# Altium integrated library Actel ProASIC3.IntLib: 465 symbols (part 12 of 68)
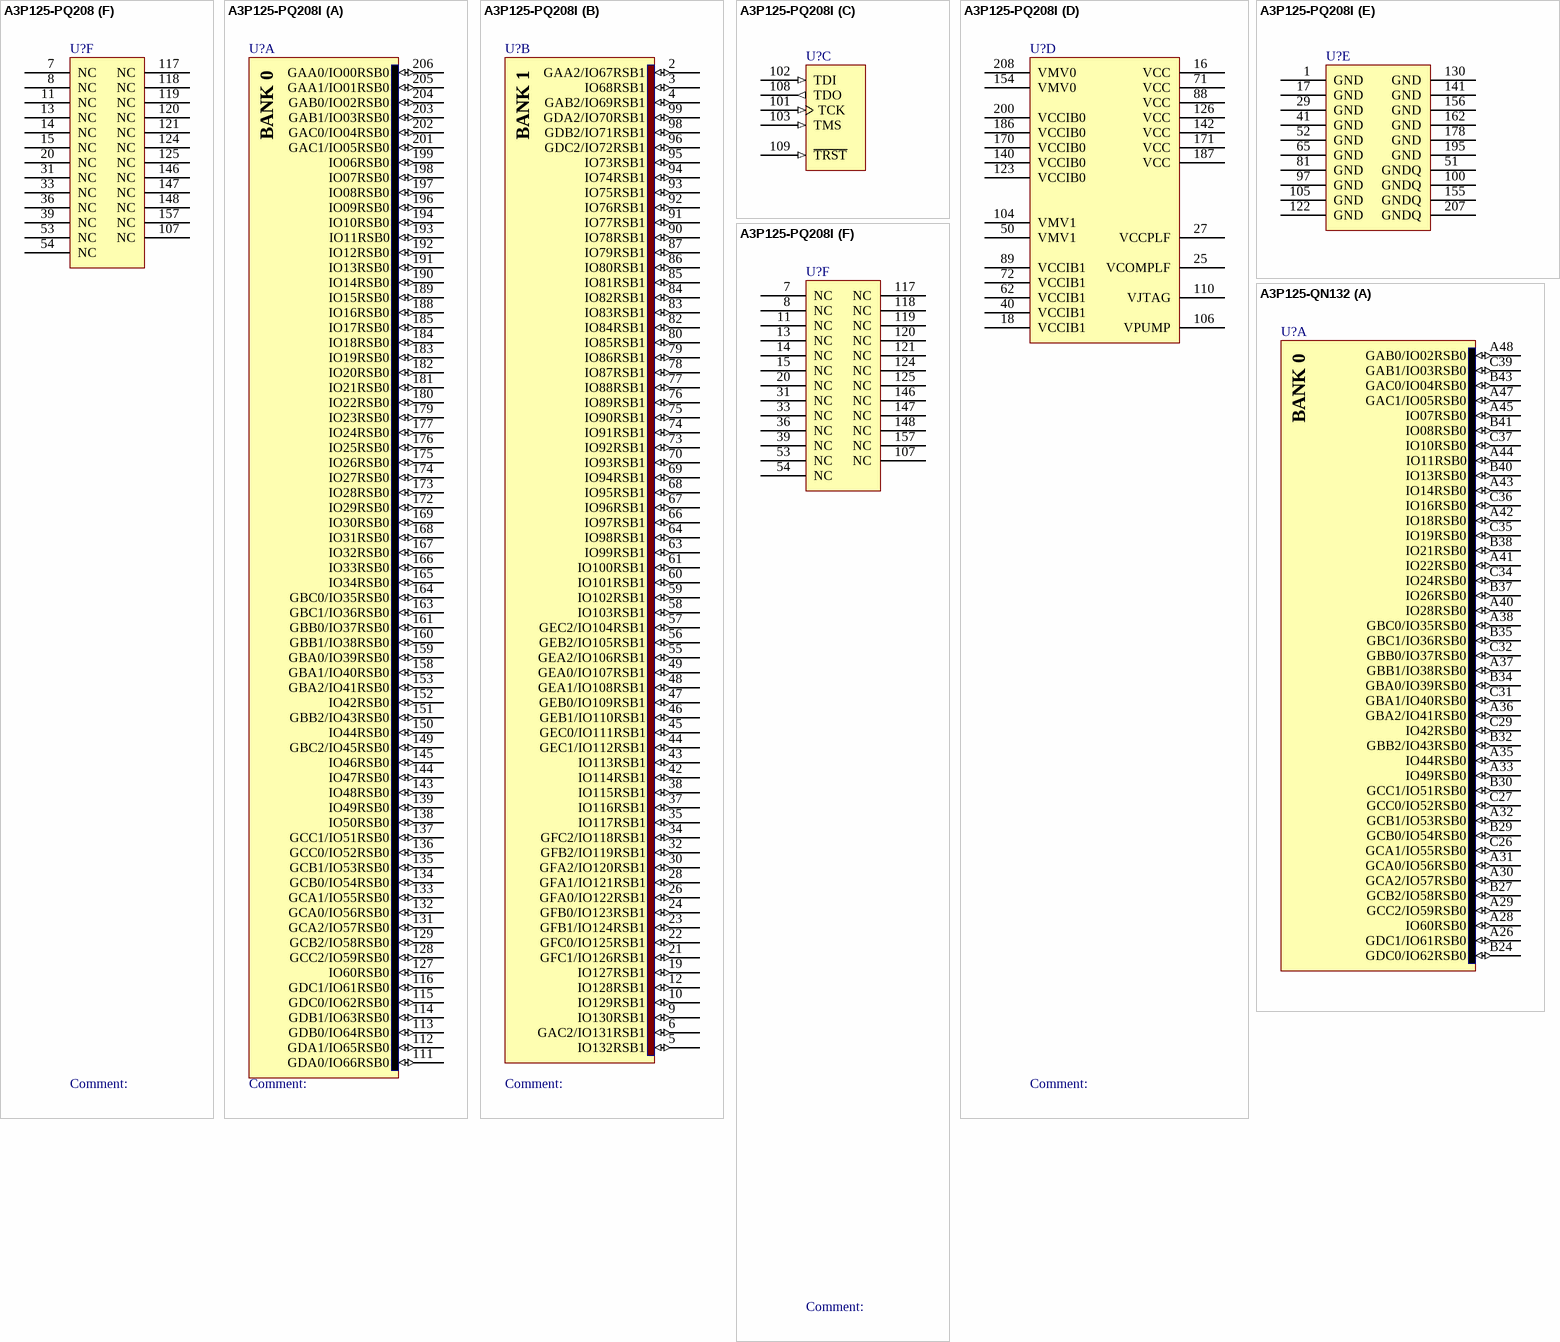
[diagram p429: symbols A3P125-PQ208 to A3P125-QN132]

## A3P125-PQ208
designator U?
ProASIC3 Flash Family FPGA, 133 User IOs, 125K System Gates, 36 Kbits RAM, 1 Kbit Flash ROM, 1 PLL, 208-Pin PQFP, Commercial Grade; Published: 4-Mar-2005; LatestRevisionDate: 11-Dec-2009; LatestRevisionNote: Updated to datasheet version 1.3 Oct-2009.; DatasheetVersion: v1.3, Oct-2009; PackageVersion: ver11.2, Nov-2009; PackageReference: PQ208; Publisher: Altium Limited; PackageDescription: 208-Pin Plastic Quad Flat Pack (PQ208); Code_JEDEC: MS-029-FA-1; ComponentLink1Description: ProASIC3 Datasheet; ComponentLink1URL: http://www.actel.com/documents/PA3_DS.pdf; ComponentLink2Description: Package Mechanical Drawings; ComponentLink2URL: http://www.actel.com/documents/PckgMechDrwngs.pdf; ComponentLink3Description: ProASIC3 Documents; ComponentLink3URL: http://www.actel.com/products/pa3/docs.aspx; ComponentLink4Description: Actel.com Home; ComponentLink4URL: http://www.actel.com/
footprint PQ208_N (Shrink QFP, 208-Leads, Body 28x28mm, Pitch 0.5mm, IPC Medium Density)
footprint PQ208_L (Shrink QFP, 208-Leads, Body 28x28mm, Pitch 0.5mm, IPC High Density)
footprint PQ208_M (Shrink QFP, 208-Leads, Body 28x28mm, Pitch 0.5mm, IPC Low Density)
signal-integrity model A3P125_PQ208 (ProASIC3)
part A pins: 111 GDA0/IO66RSB0 (io), 112 GDA1/IO65RSB0 (io), 113 GDB0/IO64RSB0 (io), 114 GDB1/IO63RSB0 (io), 115 GDC0/IO62RSB0 (io), 116 GDC1/IO61RSB0 (io), 127 IO60RSB0 (io), 128 GCC2/IO59RSB0 (io), 129 GCB2/IO58RSB0 (io), 131 GCA2/IO57RSB0 (io), 132 GCA0/IO56RSB0 (io), 133 GCA1/IO55RSB0 (io), 134 GCB0/IO54RSB0 (io), 135 GCB1/IO53RSB0 (io), 136 GCC0/IO52RSB0 (io), 137 GCC1/IO51RSB0 (io), 138 IO50RSB0 (io), 139 IO49RSB0 (io), 143 IO48RSB0 (io), 144 IO47RSB0 (io), 145 IO46RSB0 (io), 149 GBC2/IO45RSB0 (io), 150 IO44RSB0 (io), 151 GBB2/IO43RSB0 (io), 152 IO42RSB0 (io), 153 GBA2/IO41RSB0 (io), 158 GBA1/IO40RSB0 (io), 159 GBA0/IO39RSB0 (io), 160 GBB1/IO38RSB0 (io), 161 GBB0/IO37RSB0 (io), 163 GBC1/IO36RSB0 (io), 164 GBC0/IO35RSB0 (io), 165 IO34RSB0 (io), 166 IO33RSB0 (io), 167 IO32RSB0 (io), 168 IO31RSB0 (io), 169 IO30RSB0 (io), 172 IO29RSB0 (io), 173 IO28RSB0 (io), 174 IO27RSB0 (io), 175 IO26RSB0 (io), 176 IO25RSB0 (io), 177 IO24RSB0 (io), 179 IO23RSB0 (io), 180 IO22RSB0 (io), 181 IO21RSB0 (io), 182 IO20RSB0 (io), 183 IO19RSB0 (io), 184 IO18RSB0 (io), 185 IO17RSB0 (io), 188 IO16RSB0 (io), 189 IO15RSB0 (io), 190 IO14RSB0 (io), 191 IO13RSB0 (io), 192 IO12RSB0 (io), 193 IO11RSB0 (io), 194 IO10RSB0 (io), 196 IO09RSB0 (io), 197 IO08RSB0 (io), 198 IO07RSB0 (io), 199 IO06RSB0 (io), 201 GAC1/IO05RSB0 (io), 202 GAC0/IO04RSB0 (io), 203 GAB1/IO03RSB0 (io), 204 GAB0/IO02RSB0 (io), 205 GAA1/IO01RSB0 (io), 206 GAA0/IO00RSB0 (io)
part B pins: 2 GAA2/IO67RSB1 (io), 3 IO68RSB1 (io), 4 GAB2/IO69RSB1 (io), 5 IO132RSB1 (io), 6 GAC2/IO131RSB1 (io), 9 IO130RSB1 (io), 10 IO129RSB1 (io), 12 IO128RSB1 (io), 19 IO127RSB1 (io), 21 GFC1/IO126RSB1 (io), 22 GFC0/IO125RSB1 (io), 23 GFB1/IO124RSB1 (io), 24 GFB0/IO123RSB1 (io), 26 GFA0/IO122RSB1 (io), 28 GFA1/IO121RSB1 (io), 30 GFA2/IO120RSB1 (io), 32 GFB2/IO119RSB1 (io), 34 GFC2/IO118RSB1 (io), 35 IO117RSB1 (io), 37 IO116RSB1 (io), 38 IO115RSB1 (io), 42 IO114RSB1 (io), 43 IO113RSB1 (io), 44 GEC1/IO112RSB1 (io), 45 GEC0/IO111RSB1 (io), 46 GEB1/IO110RSB1 (io), 47 GEB0/IO109RSB1 (io), 48 GEA1/IO108RSB1 (io), 49 GEA0/IO107RSB1 (io), 55 GEA2/IO106RSB1 (io), 56 GEB2/IO105RSB1 (io), 57 GEC2/IO104RSB1 (io), 58 IO103RSB1 (io), 59 IO102RSB1 (io), 60 IO101RSB1 (io), 61 IO100RSB1 (io), 63 IO99RSB1 (io), 64 IO98RSB1 (io), 66 IO97RSB1 (io), 67 IO96RSB1 (io), 68 IO95RSB1 (io), 69 IO94RSB1 (io), 70 IO93RSB1 (io), 73 IO92RSB1 (io), 74 IO91RSB1 (io), 75 IO90RSB1 (io), 76 IO89RSB1 (io), 77 IO88RSB1 (io), 78 IO87RSB1 (io), 79 IO86RSB1 (io), 80 IO85RSB1 (io), 82 IO84RSB1 (io), 83 IO83RSB1 (io), 84 IO82RSB1 (io), 85 IO81RSB1 (io), 86 IO80RSB1 (io), 87 IO79RSB1 (io), 90 IO78RSB1 (io), 91 IO77RSB1 (io), 92 IO76RSB1 (io), 93 IO75RSB1 (io), 94 IO74RSB1 (io), 95 IO73RSB1 (io), 96 GDC2/IO72RSB1 (io), 98 GDB2/IO71RSB1 (io), 99 GDA2/IO70RSB1 (io)
part C pins: 101 TCK (in), 102 TDI (in), 103 TMS (in), 108 TDO (out), 109 ~{TRST} (in)
part D pins: 16 VCC (power), 18 VCCIB1 (power), 25 VCOMPLF (power), 27 VCCPLF (power), 40 VCCIB1 (power), 50 VMV1 (power), 62 VCCIB1 (power), 71 VCC (power), 72 VCCIB1 (power), 88 VCC (power), 89 VCCIB1 (power), 104 VMV1 (power), 106 VPUMP (power), 110 VJTAG (power), 123 VCCIB0 (power), 126 VCC (power), 140 VCCIB0 (power), 142 VCC (power), 154 VMV0 (power), 170 VCCIB0 (power), 171 VCC (power), 186 VCCIB0 (power), 187 VCC (power), 200 VCCIB0 (power), 208 VMV0 (power)
part E pins: 1 GND (power), 17 GND (power), 29 GND (power), 41 GND (power), 51 GNDQ (power), 52 GND (power), 65 GND (power), 81 GND (power), 97 GND (power), 100 GNDQ (power), 105 GND (power), 122 GND (power), 130 GND (power), 141 GND (power), 155 GNDQ (power), 156 GND (power), 162 GND (power), 178 GND (power), 195 GND (power), 207 GNDQ (power)
part F pins: 7 NC, 8 NC, 11 NC, 13 NC, 14 NC, 15 NC, 20 NC, 31 NC, 33 NC, 36 NC, 39 NC, 53 NC, 54 NC, 107 NC, 117 NC, 118 NC, 119 NC, 120 NC, 121 NC, 124 NC, 125 NC, 146 NC, 147 NC, 148 NC, 157 NC
part A text: BANK 0
part B text: BANK 1

## A3P125-PQ208I
designator U?
ProASIC3 Flash Family FPGA, 133 User IOs, 125K System Gates, 36 Kbits RAM, 1 Kbit Flash ROM, 1 PLL, 208-Pin PQFP, Industrial Grade; Published: 4-Mar-2005; LatestRevisionDate: 11-Dec-2009; LatestRevisionNote: Updated to datasheet version 1.3 Oct-2009.; DatasheetVersion: v1.3, Oct-2009; PackageVersion: ver11.2, Nov-2009; PackageReference: PQ208; Publisher: Altium Limited; PackageDescription: 208-Pin Plastic Quad Flat Pack (PQ208); Code_JEDEC: MS-029-FA-1; ComponentLink1Description: ProASIC3 Datasheet; ComponentLink1URL: http://www.actel.com/documents/PA3_DS.pdf; ComponentLink2Description: Package Mechanical Drawings; ComponentLink2URL: http://www.actel.com/documents/PckgMechDrwngs.pdf; ComponentLink3Description: ProASIC3 Documents; ComponentLink3URL: http://www.actel.com/products/pa3/docs.aspx; ComponentLink4Description: Actel.com Home; ComponentLink4URL: http://www.actel.com/
footprint PQ208_N (Shrink QFP, 208-Leads, Body 28x28mm, Pitch 0.5mm, IPC Medium Density)
footprint PQ208_L (Shrink QFP, 208-Leads, Body 28x28mm, Pitch 0.5mm, IPC High Density)
footprint PQ208_M (Shrink QFP, 208-Leads, Body 28x28mm, Pitch 0.5mm, IPC Low Density)
signal-integrity model A3P125_PQ208 (ProASIC3)
part A pins: 111 GDA0/IO66RSB0 (io), 112 GDA1/IO65RSB0 (io), 113 GDB0/IO64RSB0 (io), 114 GDB1/IO63RSB0 (io), 115 GDC0/IO62RSB0 (io), 116 GDC1/IO61RSB0 (io), 127 IO60RSB0 (io), 128 GCC2/IO59RSB0 (io), 129 GCB2/IO58RSB0 (io), 131 GCA2/IO57RSB0 (io), 132 GCA0/IO56RSB0 (io), 133 GCA1/IO55RSB0 (io), 134 GCB0/IO54RSB0 (io), 135 GCB1/IO53RSB0 (io), 136 GCC0/IO52RSB0 (io), 137 GCC1/IO51RSB0 (io), 138 IO50RSB0 (io), 139 IO49RSB0 (io), 143 IO48RSB0 (io), 144 IO47RSB0 (io), 145 IO46RSB0 (io), 149 GBC2/IO45RSB0 (io), 150 IO44RSB0 (io), 151 GBB2/IO43RSB0 (io), 152 IO42RSB0 (io), 153 GBA2/IO41RSB0 (io), 158 GBA1/IO40RSB0 (io), 159 GBA0/IO39RSB0 (io), 160 GBB1/IO38RSB0 (io), 161 GBB0/IO37RSB0 (io), 163 GBC1/IO36RSB0 (io), 164 GBC0/IO35RSB0 (io), 165 IO34RSB0 (io), 166 IO33RSB0 (io), 167 IO32RSB0 (io), 168 IO31RSB0 (io), 169 IO30RSB0 (io), 172 IO29RSB0 (io), 173 IO28RSB0 (io), 174 IO27RSB0 (io), 175 IO26RSB0 (io), 176 IO25RSB0 (io), 177 IO24RSB0 (io), 179 IO23RSB0 (io), 180 IO22RSB0 (io), 181 IO21RSB0 (io), 182 IO20RSB0 (io), 183 IO19RSB0 (io), 184 IO18RSB0 (io), 185 IO17RSB0 (io), 188 IO16RSB0 (io), 189 IO15RSB0 (io), 190 IO14RSB0 (io), 191 IO13RSB0 (io), 192 IO12RSB0 (io), 193 IO11RSB0 (io), 194 IO10RSB0 (io), 196 IO09RSB0 (io), 197 IO08RSB0 (io), 198 IO07RSB0 (io), 199 IO06RSB0 (io), 201 GAC1/IO05RSB0 (io), 202 GAC0/IO04RSB0 (io), 203 GAB1/IO03RSB0 (io), 204 GAB0/IO02RSB0 (io), 205 GAA1/IO01RSB0 (io), 206 GAA0/IO00RSB0 (io)
part B pins: 2 GAA2/IO67RSB1 (io), 3 IO68RSB1 (io), 4 GAB2/IO69RSB1 (io), 5 IO132RSB1 (io), 6 GAC2/IO131RSB1 (io), 9 IO130RSB1 (io), 10 IO129RSB1 (io), 12 IO128RSB1 (io), 19 IO127RSB1 (io), 21 GFC1/IO126RSB1 (io), 22 GFC0/IO125RSB1 (io), 23 GFB1/IO124RSB1 (io), 24 GFB0/IO123RSB1 (io), 26 GFA0/IO122RSB1 (io), 28 GFA1/IO121RSB1 (io), 30 GFA2/IO120RSB1 (io), 32 GFB2/IO119RSB1 (io), 34 GFC2/IO118RSB1 (io), 35 IO117RSB1 (io), 37 IO116RSB1 (io), 38 IO115RSB1 (io), 42 IO114RSB1 (io), 43 IO113RSB1 (io), 44 GEC1/IO112RSB1 (io), 45 GEC0/IO111RSB1 (io), 46 GEB1/IO110RSB1 (io), 47 GEB0/IO109RSB1 (io), 48 GEA1/IO108RSB1 (io), 49 GEA0/IO107RSB1 (io), 55 GEA2/IO106RSB1 (io), 56 GEB2/IO105RSB1 (io), 57 GEC2/IO104RSB1 (io), 58 IO103RSB1 (io), 59 IO102RSB1 (io), 60 IO101RSB1 (io), 61 IO100RSB1 (io), 63 IO99RSB1 (io), 64 IO98RSB1 (io), 66 IO97RSB1 (io), 67 IO96RSB1 (io), 68 IO95RSB1 (io), 69 IO94RSB1 (io), 70 IO93RSB1 (io), 73 IO92RSB1 (io), 74 IO91RSB1 (io), 75 IO90RSB1 (io), 76 IO89RSB1 (io), 77 IO88RSB1 (io), 78 IO87RSB1 (io), 79 IO86RSB1 (io), 80 IO85RSB1 (io), 82 IO84RSB1 (io), 83 IO83RSB1 (io), 84 IO82RSB1 (io), 85 IO81RSB1 (io), 86 IO80RSB1 (io), 87 IO79RSB1 (io), 90 IO78RSB1 (io), 91 IO77RSB1 (io), 92 IO76RSB1 (io), 93 IO75RSB1 (io), 94 IO74RSB1 (io), 95 IO73RSB1 (io), 96 GDC2/IO72RSB1 (io), 98 GDB2/IO71RSB1 (io), 99 GDA2/IO70RSB1 (io)
part C pins: 101 TCK (in), 102 TDI (in), 103 TMS (in), 108 TDO (out), 109 ~{TRST} (in)
part D pins: 16 VCC (power), 18 VCCIB1 (power), 25 VCOMPLF (power), 27 VCCPLF (power), 40 VCCIB1 (power), 50 VMV1 (power), 62 VCCIB1 (power), 71 VCC (power), 72 VCCIB1 (power), 88 VCC (power), 89 VCCIB1 (power), 104 VMV1 (power), 106 VPUMP (power), 110 VJTAG (power), 123 VCCIB0 (power), 126 VCC (power), 140 VCCIB0 (power), 142 VCC (power), 154 VMV0 (power), 170 VCCIB0 (power), 171 VCC (power), 186 VCCIB0 (power), 187 VCC (power), 200 VCCIB0 (power), 208 VMV0 (power)
part E pins: 1 GND (power), 17 GND (power), 29 GND (power), 41 GND (power), 51 GNDQ (power), 52 GND (power), 65 GND (power), 81 GND (power), 97 GND (power), 100 GNDQ (power), 105 GND (power), 122 GND (power), 130 GND (power), 141 GND (power), 155 GNDQ (power), 156 GND (power), 162 GND (power), 178 GND (power), 195 GND (power), 207 GNDQ (power)
part F pins: 7 NC, 8 NC, 11 NC, 13 NC, 14 NC, 15 NC, 20 NC, 31 NC, 33 NC, 36 NC, 39 NC, 53 NC, 54 NC, 107 NC, 117 NC, 118 NC, 119 NC, 120 NC, 121 NC, 124 NC, 125 NC, 146 NC, 147 NC, 148 NC, 157 NC
part A text: BANK 0
part B text: BANK 1

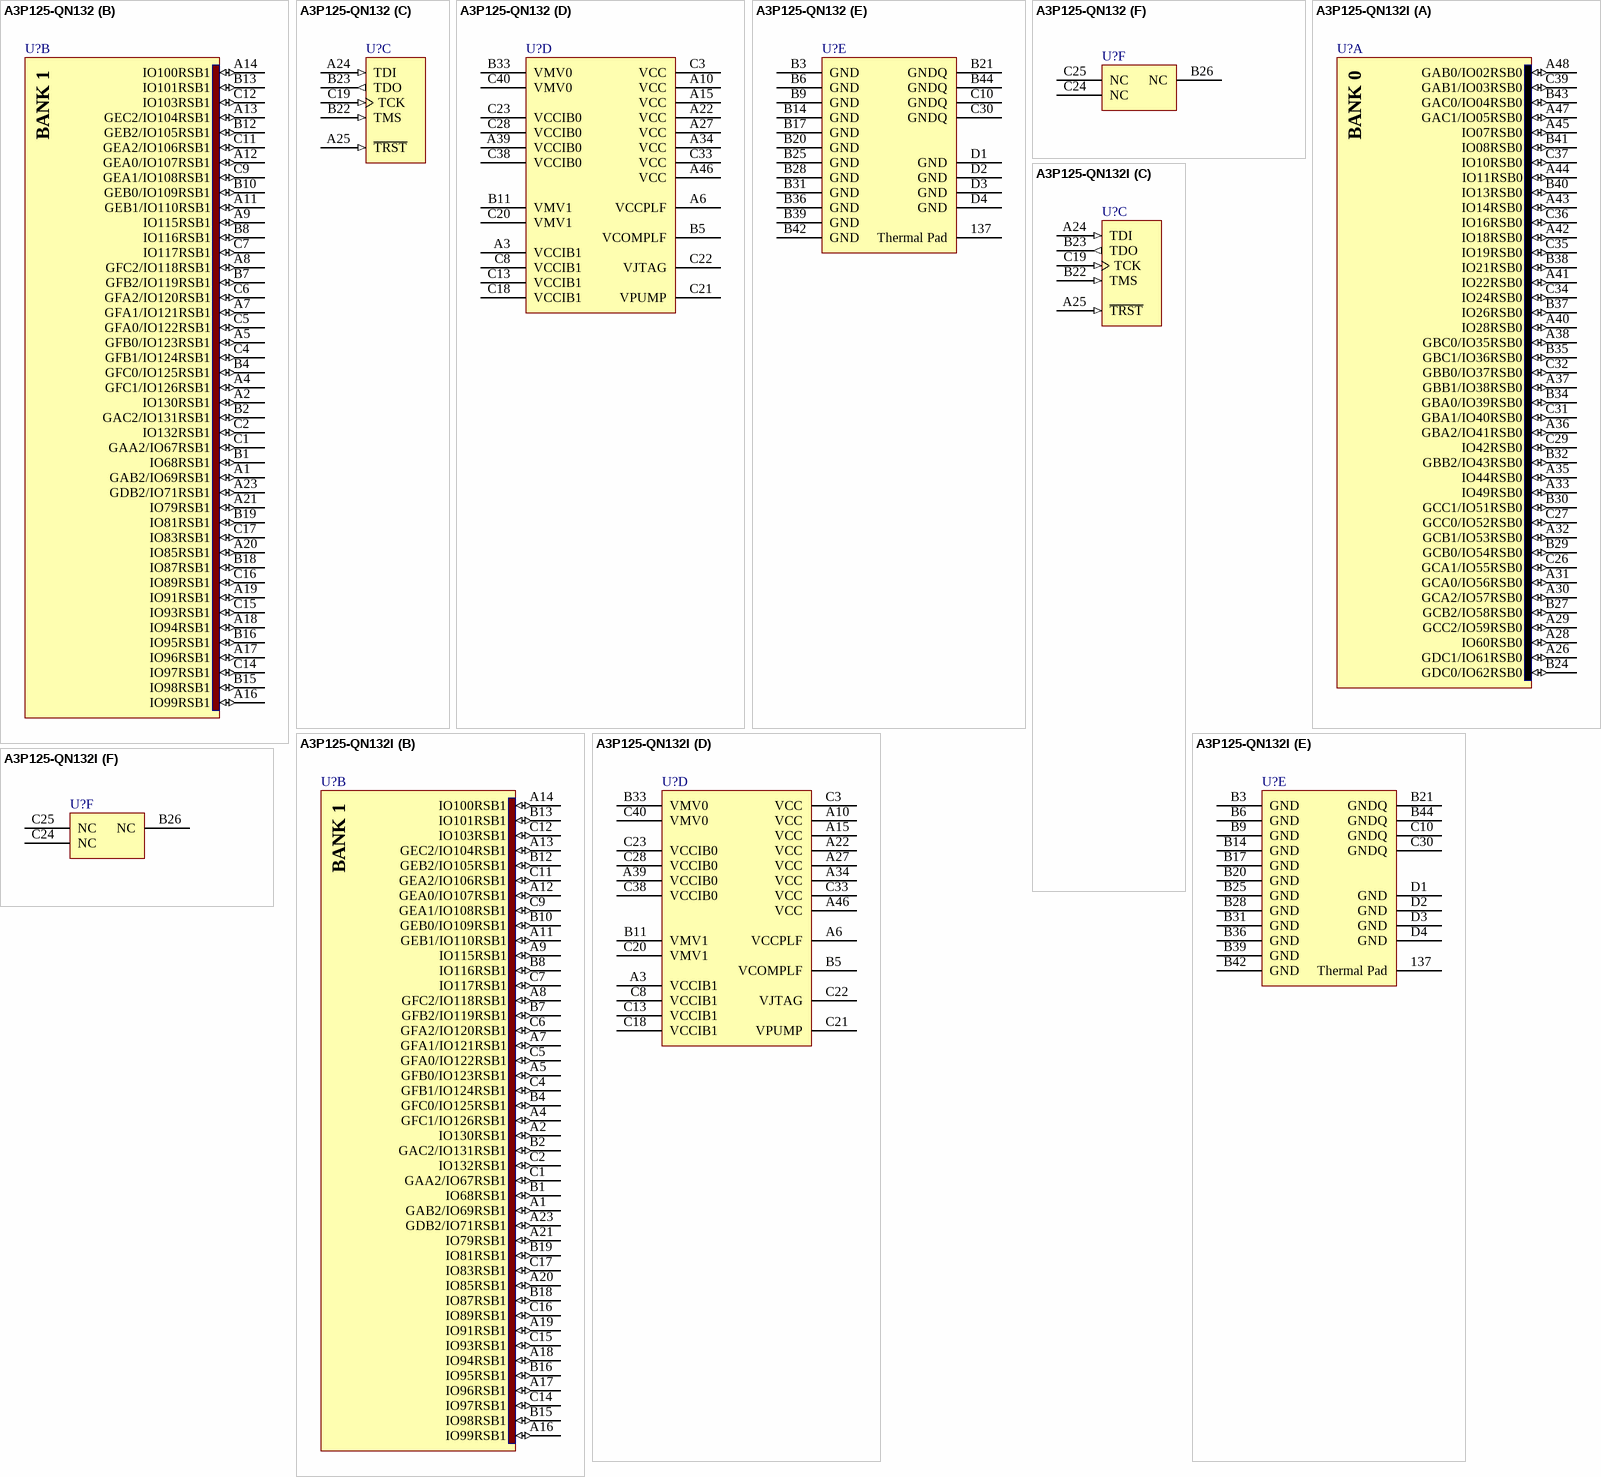
[diagram p55: symbols A3P125-QN132 to A3P125-QN132I]